# Altium integrated library TI Converter Analog to Digital.IntLib: 146 symbols (part 4 of 4)
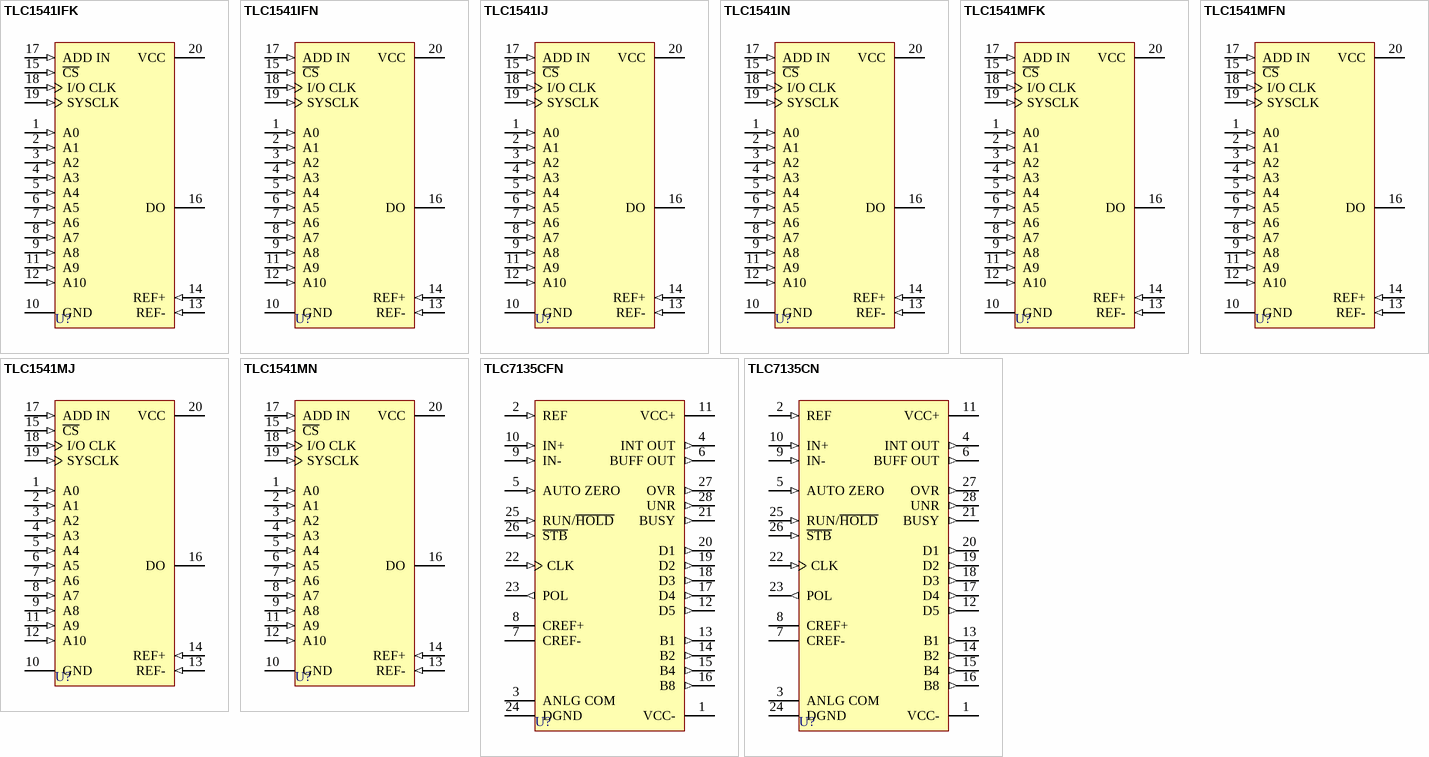
[diagram p8: symbols TLC1541IFK to TLC7135CN]

## TLC7135CN
designator U?
Advanced LinCMOS 4 1/2-Digit Precision Analog-to-Digital Converter; Published: 15-Apr-2002; LatestRevisionDate: 08-Jul-2005; LatestRevisionNote: Stylized 3D Model Added.; DatasheetVersion: Mar-1988; PackageVersion: Oct-1994; PackageReference: N028; Publisher: Altium Limited; PackageDescription: DIP; 28 Leads; Row Spacing 15.24 mm; Pitch 2.54 mm; ComponentLink1Description: Manufacturer Link; ComponentLink1URL: http://www.ti.com/; ComponentLink2Description: Datasheet; ComponentLink2URL: http://www-s.ti.com/sc/ds/icl7135.pdf
footprint N028 (DIP; 28 Leads; Row Spacing 15.24 mm; Pitch 2.54 mm)
3D model N028 (DIP; 28 Leads; Row Spacing 15.24 mm; Pitch 2.54 mm)
pins: 1 VCC- (power), 2 REF (in), 3 ANLG COM (power), 4 INT OUT (out), 5 AUTO ZERO (in), 6 BUFF OUT (out), 7 CREF-, 8 CREF+, 9 IN- (in), 10 IN+ (in), 11 VCC+ (power), 12 D5 (out), 13 B1 (out), 14 B2 (out), 15 B4 (out), 16 B8 (out), 17 D4 (out), 18 D3 (out), 19 D2 (out), 20 D1 (out), 21 BUSY (out), 22 CLK (in), 23 POL (out), 24 DGND (power), 25 RUN/~{HOLD} (in), 26 ~{STB} (in), 27 OVR (out), 28 UNR (out)